# Altium schematic symbol library 1N5819W.Schlib: 1 symbol
Pins are listed as number, name and electrical type; pins without a type are passive.

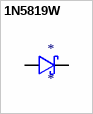
[diagram p0: symbol 1N5819W]

## 1N5819W
designator *
ComponentLink1Description: LCSC - Shandong Jingdao Microelectronics 1N5819W; ComponentLink1URL: https://lcsc.com/product-detail/Schottky-Barrier-Diodes-SBD_Shandong-Jingdao-Microelectronics-1N5819W_C169540.html/?href=jlc-SMT; LCSC Part #: C169540; JLCPCB Part Type: Extended
footprint SOD123
pins: 1 K, 2 A